# Altium schematic symbol library SCH - ARM CORTEX - STM STM8S903K3Bx.SchLib: 1 symbol
Pins are listed as number, name and electrical type; pins without a type are passive.

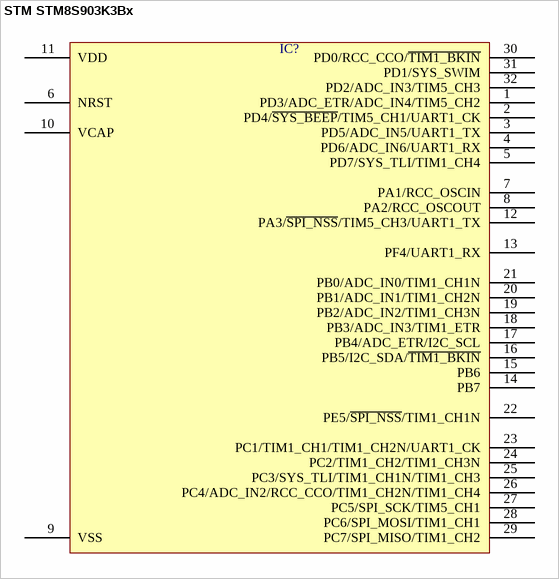
[diagram p0: symbol STM STM8S903K3Bx]

## STM STM8S903K3Bx
designator IC?  (value not drawn)
pins: 1 PD3/ADC_ETR/ADC_IN4/TIM5_CH2, 2 PD4/~{SYS_BEEP}/TIM5_CH1/UART1_CK, 3 PD5/ADC_IN5/UART1_TX, 4 PD6/ADC_IN6/UART1_RX, 5 PD7/SYS_TLI/TIM1_CH4, 6 NRST, 7 PA1/RCC_OSCIN, 8 PA2/RCC_OSCOUT, 9 VSS, 10 VCAP, 11 VDD, 12 PA3/~{SPI_NSS}/TIM5_CH3/UART1_TX, 13 PF4/UART1_RX, 14 PB7, 15 PB6, 16 PB5/I2C_SDA/~{TIM1_BKIN}, 17 PB4/ADC_ETR/I2C_SCL, 18 PB3/ADC_IN3/TIM1_ETR, 19 PB2/ADC_IN2/TIM1_CH3N, 20 PB1/ADC_IN1/TIM1_CH2N, 21 PB0/ADC_IN0/TIM1_CH1N, 22 PE5/~{SPI_NSS}/TIM1_CH1N, 23 PC1/TIM1_CH1/TIM1_CH2N/UART1_CK, 24 PC2/TIM1_CH2/TIM1_CH3N, 25 PC3/SYS_TLI/TIM1_CH1N/TIM1_CH3, 26 PC4/ADC_IN2/RCC_CCO/TIM1_CH2N/TIM1_CH4, 27 PC5/SPI_SCK/TIM5_CH1, 28 PC6/SPI_MOSI/TIM1_CH1, 29 PC7/SPI_MISO/TIM1_CH2, 30 PD0/RCC_CCO/~{TIM1_BKIN}, 31 PD1/SYS_SWIM, 32 PD2/ADC_IN3/TIM5_CH3